# Altium schematic symbol library C0603C105K3RACTU.SchLib: 1 symbol
Pins are listed as number, name and electrical type; pins without a type are passive.

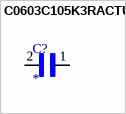
[diagram p0: symbol C0603C105K3RACTU]

## C0603C105K3RACTU
designator C?
1ÂµF Â±10% 25V Ceramic Capacitor X7R 0603 (1608 Metric); MF: KEMET; MP: C0603C105K3RACTU; SnapEDA_Link: https://www.snapeda.com/parts/C0603C105K3RACTU/KEMET/view-part/553780/?ref=snap; Price: None; Check_prices: https://www.snapeda.com/parts/C0603C105K3RACTU/KEMET/view-part/553780/?ref=eda; Purchase-URL: https://pricing.snapeda.com/search/part/C0603C105K3RACTU/?ref=eda; Value: *; Availability: Good; Package: 0603 Kemet
footprint CAPC1608X90
pins: 1, 2